# Altium footprint library PCB_Project_PCBparts_2.PcbLib: 7 footprints
Each footprint in its own frame and in the unit in brackets; x right, y up, seen from the top. Pads: shape width x height; smd on the part's side, far side on the other; paste and mask are expansions set on the pad; w line width, h text height; cw(c..) or ccw(c..) is an arc to the next point about the centre after c.
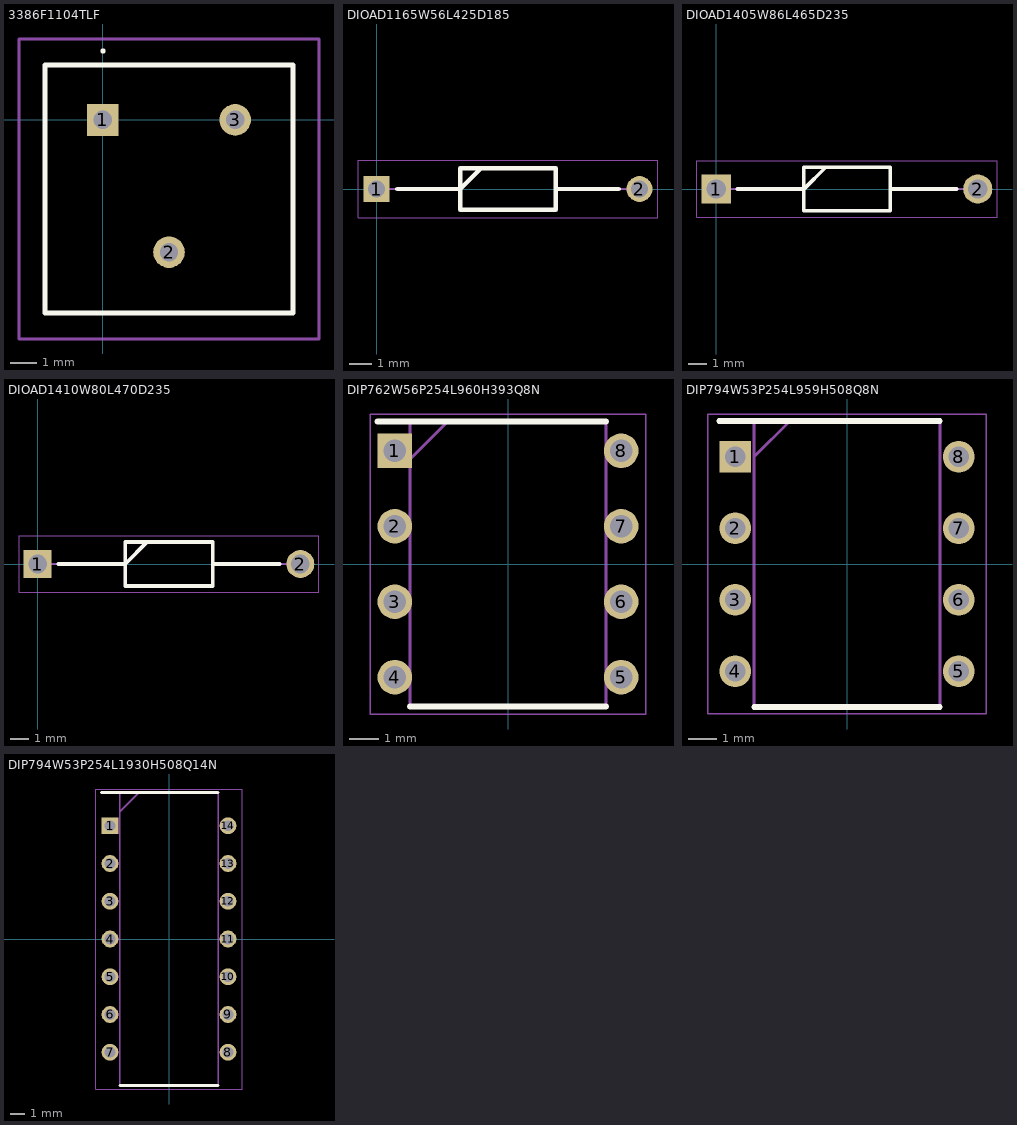
[diagram p0: the footprints below, top view; thin cyan lines are the x and y axes]

## 3386F1104TLF [mm]
pads (3):
  rect 1.217x1.217 hole 0.71: 1(0,0)
  round 1.217 hole 0.71: 2(2.54,-5.08) 3(5.08,0)
Top Overlay:
  lines w0.1: 0,2.6 cw(c0,2.65) 0,2.7 cw(c0,2.65) 0,2.6
  lines w0.2: -2.225,-7.42 -2.225,2.11 7.305,2.11 7.305,-7.42 -2.225,-7.42
Mechanical 13:
  lines w0.1: -2.225,-7.42 -2.225,2.11 7.305,2.11 7.305,-7.42 -2.225,-7.42
Mechanical 15:
  lines w0.1: -3.225,-8.42 -3.225,3.11 8.305,3.11 8.305,-8.42 -3.225,-8.42
3D body "3386F-1-104TLF.stp": height 5.18, standoff -5, extent -2.225,-7.42 7.305,2.11

## DIOAD1165W56L425D185 [mm]
pads (2):
  rect 1.15x1.15 hole 0.75: 1(0,0)
  round 1.15 hole 0.75: 2(11.7,0)
Top Overlay:
  lines w0.2: 0.925,0 3.725,0 4.65,0.925 ; 7.975,0 10.775,0 ; 3.725,-0.925 7.975,-0.925 7.975,0.925 3.725,0.925 3.725,-0.925
Mechanical 13:
  lines w0.1: 0,0 3.725,0 4.65,0.925 ; 7.975,0 11.7,0 ; 3.725,-0.925 7.975,-0.925 7.975,0.925 3.725,0.925 3.725,-0.925
Mechanical 15:
  lines w0.05: -0.825,-1.275 12.525,-1.275 12.525,1.275 -0.825,1.275 -0.825,-1.275
3D body "1N4148,133.stp": height 32.04, standoff -28.96, extent 0.958,1.687 2.668,3.388

## DIOAD1405W86L465D235 [mm]
pads (2):
  rect 1.575x1.575 hole 1.05: 1(0,0)
  round 1.575 hole 1.05: 2(14.1,0)
Top Overlay:
  lines w0.2: 1.138,0 4.725,0 5.9,1.175 ; 9.375,0 12.962,0 ; 4.725,-1.175 4.725,1.175 9.375,1.175 9.375,-1.175 4.725,-1.175
Mechanical 13:
  lines w0.1: 0,0 4.725,0 5.9,1.175 ; 9.375,0 14.1,0 ; 4.725,-1.175 4.725,1.175 9.375,1.175 9.375,-1.175 4.725,-1.175
Mechanical 15:
  lines w0.05: -1.038,-1.525 -1.038,1.525 15.137,1.525 15.137,-1.525 -1.038,-1.525
3D body "1N4001.stp": height 2.7, standoff -2.7, extent -0.43,-1.34 14.48,1.34

## DIOAD1410W80L470D235 [mm]
pads (2):
  rect 1.5x1.5 hole 1: 1(0,0)
  round 1.5 hole 1: 2(14.1,0)
Top Overlay:
  lines w0.2: 1.1,0 4.7,0 5.875,1.175 ; 9.4,0 13,0 ; 4.7,-1.175 4.7,1.175 9.4,1.175 9.4,-1.175 4.7,-1.175
Mechanical 13:
  lines w0.1: 0,0 4.7,0 5.875,1.175 ; 9.4,0 14.1,0 ; 4.7,-1.175 4.7,1.175 9.4,1.175 9.4,-1.175 4.7,-1.175
Mechanical 15:
  lines w0.05: -1,-1.525 -1,1.525 15.1,1.525 15.1,-1.525 -1,-1.525
3D body "1N4002.stp": height 2.7, standoff -2.7, extent -0.4,-1.34 14.5,1.34

## DIP762W56P254L960H393Q8N [mm]
pads (8):
  rect 1.16x1.16 hole 0.76: 1(-3.81,3.81)
  round 1.16 hole 0.76: 2(-3.81,1.27) 3(-3.81,-1.27) 4(-3.81,-3.81) 5(3.81,-3.81) 6(3.81,-1.27) 7(3.81,1.27) 8(3.81,3.81)
Top Overlay:
  lines w0.2: -4.39,4.8 3.3,4.8 ; -3.3,-4.8 3.3,-4.8
Mechanical 13:
  lines w0.1: -3.3,3.53 -2.03,4.8 ; -3.3,-4.8 -3.3,4.8 3.3,4.8 3.3,-4.8 -3.3,-4.8
Mechanical 15:
  lines w0.05: -4.64,-5.05 -4.64,5.05 4.64,5.05 4.64,-5.05 -4.64,-5.05
3D body "LM358N.stp": height 4.21, standoff -3.37, extent -4.102,-4.635 4.102,4.635

## DIP794W53P254L959H508Q8N [mm]
pads (8):
  rect 1.13x1.13 hole 0.73: 1(-3.97,3.81)
  round 1.13 hole 0.73: 2(-3.97,1.27) 3(-3.97,-1.27) 4(-3.97,-3.81) 5(3.97,-3.81) 6(3.97,-1.27) 7(3.97,1.27) 8(3.97,3.81)
Top Overlay:
  lines w0.2: -4.535,5.08 3.3,5.08 ; -3.3,-5.08 3.3,-5.08
Mechanical 13:
  lines w0.1: -3.3,3.81 -2.03,5.08 ; -3.3,-5.08 -3.3,5.08 3.3,5.08 3.3,-5.08 -3.3,-5.08
Mechanical 15:
  lines w0.05: -4.945,-5.33 -4.945,5.33 4.945,5.33 4.945,-5.33 -4.945,-5.33
3D body "TL072IP.stp": height 4.21, standoff -3.37, extent -4.102,-4.635 4.102,4.635

## DIP794W53P254L1930H508Q14N [mm]
pads (14):
  rect 1.13x1.13 hole 0.73: 1(-3.97,7.62)
  round 1.13 hole 0.73: 2(-3.97,5.08) 3(-3.97,2.54) 4(-3.97,0) 5(-3.97,-2.54) 6(-3.97,-5.08) 7(-3.97,-7.62) 8(3.97,-7.62) 9(3.97,-5.08) 10(3.97,-2.54) 11(3.97,0) 12(3.97,2.54) 13(3.97,5.08) 14(3.97,7.62)
Top Overlay:
  lines w0.2: -4.535,9.845 3.3,9.845 ; -3.3,-9.845 3.3,-9.845
Mechanical 13:
  lines w0.1: -3.3,8.575 -2.03,9.845 ; -3.3,-9.845 -3.3,9.845 3.3,9.845 3.3,-9.845 -3.3,-9.845
Mechanical 15:
  lines w0.05: -4.945,-10.095 -4.945,10.095 4.945,10.095 4.945,-10.095 -4.945,-10.095
3D body "TL074CN.stp": height 5.08, standoff -3.5, extent -4.102,-9.653 4.102,9.653